# EAGLE library part HDMI (library connectors)
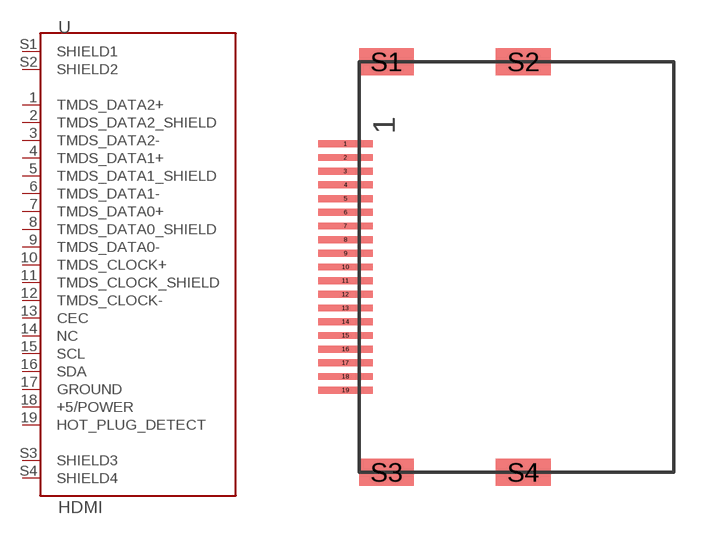
[diagram p7: symbol with the pads of HDMI; footprint HDMI]

Designator prefix -

## HDMI  [HDMI]
1  TMDS_DATA2+
2  TMDS_DATA2_SHIELD
3  TMDS_DATA2-
4  TMDS_DATA1+
5  TMDS_DATA1_SHIELD
6  TMDS_DATA1-
7  TMDS_DATA0+
8  TMDS_DATA0_SHIELD
9  TMDS_DATA0-
10  TMDS_CLOCK+
11  TMDS_CLOCK_SHIELD
12  TMDS_CLOCK-
13  CEC
14  NC
15  SCL
16  SDA
17  GROUND
18  +5/POWER
19  HOT_PLUG_DETECT
S1  SHIELD1
S2  SHIELD2
S3  SHIELD3
S4  SHIELD4

## Footprint HDMI (pad centres in mm)
smd 2 x 0.25: 1 -6,4.5; 2 -6,4; 3 -6,3.5; 4 -6,3; 5 -6,2.5; 6 -6,2; 7 -6,1.5; 8 -6,1; 9 -6,0.5; 10 -6,0; 11 -6,-0.5; 12 -6,-1; 13 -6,-1.5; 14 -6,-2; 15 -6,-2.5; 16 -6,-3; 17 -6,-3.5; 18 -6,-4; 19 -6,-4.5
smd 2 x 1: S1 -4.5,7.5; S2 0.5,7.5; S3 -4.5,-7.5; S4 0.5,-7.5